# Altium schematic symbol library L78L33ACUTR.Schlib: 1 symbol
Pins are listed as number, name and electrical type; pins without a type are passive.

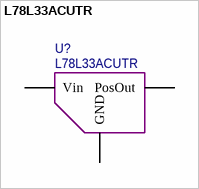
[diagram p0: symbol L78L33ACUTR]

## L78L33ACUTR
designator U?
pins: 1 PosOut, 2 GND, 3 Vin